# Altium footprint library Resistance_PcbLib.PcbLib: 20 footprints (part 2 of 2)
Each footprint in its own frame and in the unit in brackets; x right, y up, seen from the top. Pads: shape width x height; smd on the part's side, far side on the other; paste and mask are expansions set on the pad; w line width, h text height; cw(c..) or ccw(c..) is an arc to the next point about the centre after c.
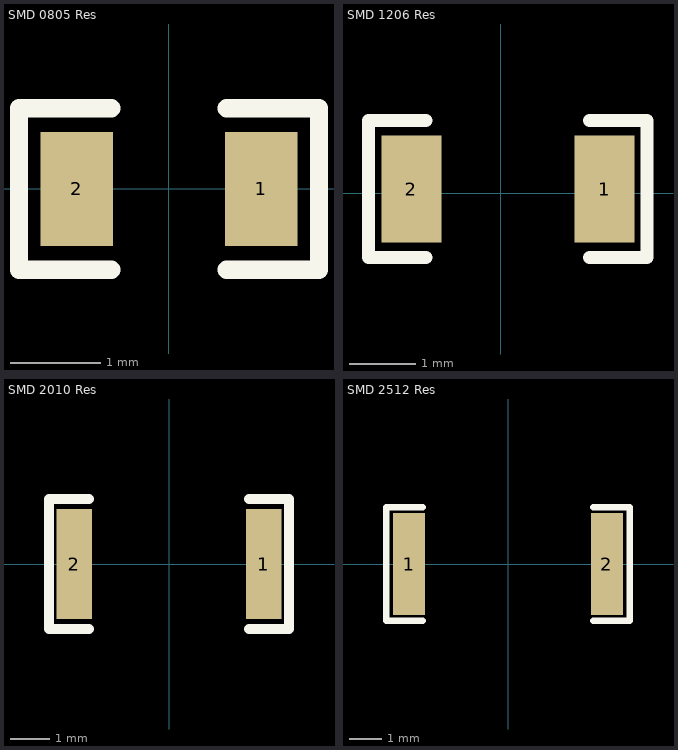
[diagram p1: the footprints below, top view; thin cyan lines are the x and y axes]

## SMD 0805 Res [mm] "SMD 0805 電阻 1/8 (0.125)"
pads (2):
  rect 0.8x1.25 smd: 1(1.016,0) 2(-1.016,0)
Top Overlay:
  lines w0.2: -0.635,-0.889 -1.651,-0.889 -1.651,0.889 -0.635,0.889 ; 0.635,-0.889 1.651,-0.889 1.651,0.889 0.635,0.889
3D body: height 0.45, standoff 0, extent -1,-0.625 1,0.625

## SMD 1206 Res [mm] "SMD 1206 電阻 1/4 (0.25) W"
pads (2):
  rect 0.9x1.6 smd: 1(1.562,0.064) 2(-1.338,0.064)
Top Overlay:
  lines w0.2: -1.118,-0.965 -1.981,-0.965 -1.981,1.092 -1.118,1.092 ; 1.333,-0.965 2.197,-0.965 2.197,1.092 1.333,1.092
3D body: height 0.58, standoff -0.02, extent -1.473,-0.736 1.727,0.864

## SMD 2010 Res [mm] "SMD 2010 電阻 1/2 (0.50)"
pads (2):
  rect 0.9x2.8 smd: 1(2.413,0) 2(-2.413,0)
Top Overlay:
  lines w0.254: -2.032,-1.651 -3.048,-1.651 -3.048,1.651 -2.032,1.651 ; 2.032,-1.651 3.048,-1.651 3.048,1.651 2.032,1.651
3D body: height 0.55, standoff 0, extent -2.5,-1.26 2.5,1.26

## SMD 2512 Res [mm] "SMD 2512 電阻 1W"
pads (2):
  rect 1x3.2 smd: 1(-3.1,0) 2(3.1,0)
Top Overlay:
  lines w0.2: -2.667,-1.778 -3.81,-1.778 -3.81,1.778 -2.667,1.778 ; 2.667,-1.778 3.81,-1.778 3.81,1.778 2.667,1.778
3D body: height 0.6, standoff 0, extent -3.2,-1.6 3.2,1.6